# EAGLE library part CC1310F128RSMR (library Microcontroller)
IC RF TXRX+MCU ISM<1GHZ 32VFQFN Manufacturer's datasheet <https://media.digikey.com/pdf/Data%20Sheets/Texas%20Instruments%20PDFs/CC1310.pdf>
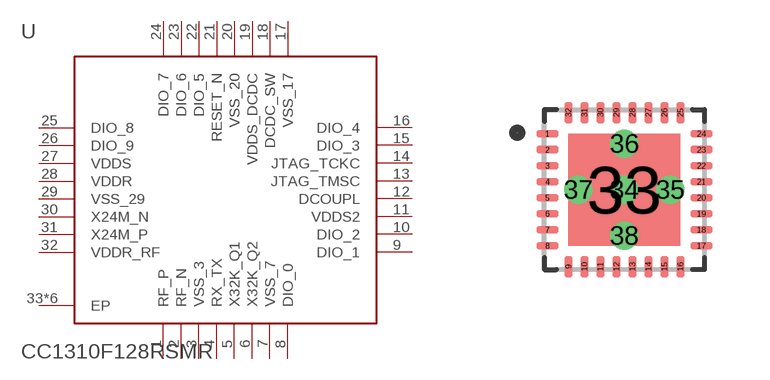
[diagram p14: symbol with the pads of 32-VFQFN; footprint 32-VFQFN]

Designator prefix U

## CC1310F128RSMR (CREATED_BY: PCBLayout.com; DIGIKEY_PART_NUMBER: 296-48502-2-ND; MANUFACTURER: Texas Instruments; MPN: CC1310F128RSMR; PACKAGE: 32-VFQFN)  [32-VFQFN]
1  RF_P
2  RF_N
3  VSS_3  pwr
4  RX_TX
5  X32K_Q1
6  X32K_Q2
7  VSS_7  pwr
8  DIO_0
9  DIO_1
10  DIO_2
11  VDDS2  pwr
12  DCOUPL  pwr
13  JTAG_TMSC
14  JTAG_TCKC
15  DIO_3
16  DIO_4
17  VSS_17  pwr
18  DCDC_SW  pwr
19  VDDS_DCDC  pwr
20  VSS_20  pwr
21  RESET_N  in
22  DIO_5
23  DIO_6
24  DIO_7
25  DIO_8
26  DIO_9
27  VDDS  pwr
28  VDDR  pwr
29  VSS_29  pwr
30  X24M_N
31  X24M_P
32  VDDR_RF  pwr
33  EP  pwr
34  EP  pwr
35  EP  pwr
36  EP  pwr
37  EP  pwr
38  EP  pwr

## Footprint 32-VFQFN (pad centres in mm)
smd 0.55 x 0.2: 1 -1.925,1.4; 2 -1.925,1; 3 -1.925,0.6; 4 -1.925,0.2; 5 -1.925,-0.2; 6 -1.925,-0.6; 7 -1.925,-1; 8 -1.925,-1.4; 17 1.925,-1.4; 18 1.925,-1; 19 1.925,-0.6; 20 1.925,-0.2; 21 1.925,0.2; 22 1.925,0.6; 23 1.925,1; 24 1.925,1.4
smd 0.2 x 0.55: 9 -1.4,-1.925; 10 -1,-1.925; 11 -0.6,-1.925; 12 -0.2,-1.925; 13 0.2,-1.925; 14 0.6,-1.925; 15 1,-1.925; 16 1.4,-1.925; 25 1.4,1.925; 26 1,1.925; 27 0.6,1.925; 28 0.2,1.925; 29 -0.2,1.925; 30 -0.6,1.925; 31 -1,1.925; 32 -1.4,1.925
smd 2.8 x 2.8: 33 0,0
drill 0.2 pad 0.4: 34 0,0; 35 1.15,0; 36 0,1.15; 37 -1.15,0; 38 0,-1.15